# Altium schematic symbol library IC_MEM.SchLib: 5 symbols
Pins are listed as number, name and electrical type; pins without a type are passive.

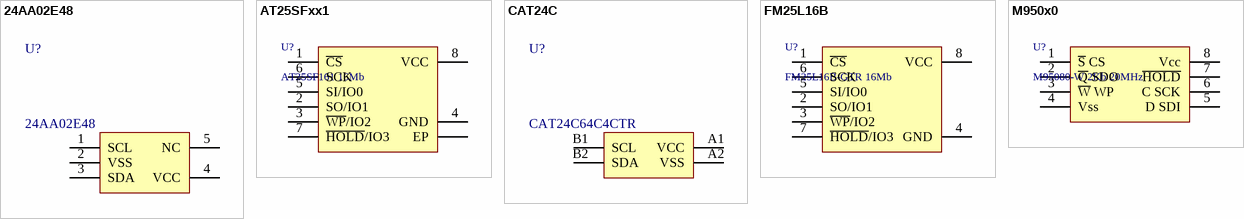
[diagram p0: symbols 24AA02E48 to M950x0]

## 24AA02E48
designator U?
I2C MAC EEPROM; BOMString: 24AA02E48; Name: 24AA02E48
footprint SOT-23-5
pins: 1 SCL, 2 VSS, 3 SDA, 4 VCC, 5 NC

## AT25SFxx1
designator U?, comment AT25SF161 16Mb
16-Mbit, 2.5V Minimum SPI Serial Flash Memory with Dual-I/O and Quad-IO Support; Frequency: 104MHz; WriteTimeWord/Page: 5us/5ms; HelpURL: http://www.adestotech.com/wp-content/uploads/DS-AT25SF161_046.pdf; Supplier: https://www.digikey.com/product-detail/en/adesto-technologies/AT25SF161-MHD-T/1265-1257-1-ND/6827210; Name: AT25SF161; Size: 16Mb; BOMString: AT25SF161
footprint DFN-8-1.27-5x6 (SON, 8-Leads, Body 5,00x6,00mm, Pitch 1,27mm, Thermal Pad 4,00x3,40mm, IPC Medium Density)
footprint SOIC-8
pins: 0 EP, 1 ~{CS}, 2 SO/IO1, 3 ~{WP}/IO2, 4 GND, 5 SI/IO0, 6 SCK, 7 ~{HOLD}/IO3, 8 VCC

## CAT24C
designator U?, comment CAT24C64C4CTR
I2C cmos serial eeprom; BOMString: CAT24C64C4CTR; Name: CAT24C64C4CTR
footprint WLCSP4_0.84x0.86
pins: A1 VCC, A2 VSS, B1 SCL, B2 SDA

## FM25L16B
designator U?, comment FM25L16B-GTR 16Mb
16K (2K x 8) SPI FRAM; Frequency: 104MHz; WriteTimeWord/Page: 5us/5ms; HelpURL: https://www.cypress.com/file/136516/download; Supplier: https://www.digikey.com/product-detail/en/cypress-semiconductor-corp/FM25L16B-GTR/428-3578-1-ND/5977807; Name: FM25L16B-GTR; Size: 16Mb; BOMString: FM25L16B-GTR
footprint SOIC-8
pins: 1 ~{CS}, 2 SO/IO1, 3 ~{WP}/IO2, 4 GND, 5 SI/IO0, 6 SCK, 7 ~{HOLD}/IO3, 8 VCC

## M950x0
designator U?, comment M95080-W 2Kb 20MHz
2-Kbit serial SPI bus EEPROM with high-speed clock; Frequency_MHz: 20; WriteTimeWord_Page_ms: 5; Size_Kb: 2; HelpURL: https://www.st.com/resource/en/datasheet/m95080-r.pdf; Supplier: https://www.electronshik.ru/item/ST/M95020-WMN6TP; Name: M95080-W; SupplierCost_rub: 3.7; BOMString: M95080-W
footprint SOIC-8
pins: 1 ~{S} CS, 2 ~{Q} SDO, 3 ~{W} WP, 4 Vss, 5 D SDI, 6 C SCK, 7 ~{HOLD}, 8 Vcc